# Altium footprint library CHXXX.pcblib: 142 footprints (part 2 of 9)
Each footprint in its own frame and in the unit in brackets; x right, y up, seen from the top. Pads: shape width x height; smd on the part's side, far side on the other; paste and mask are expansions set on the pad; w line width, h text height; cw(c..) or ccw(c..) is an arc to the next point about the centre after c.
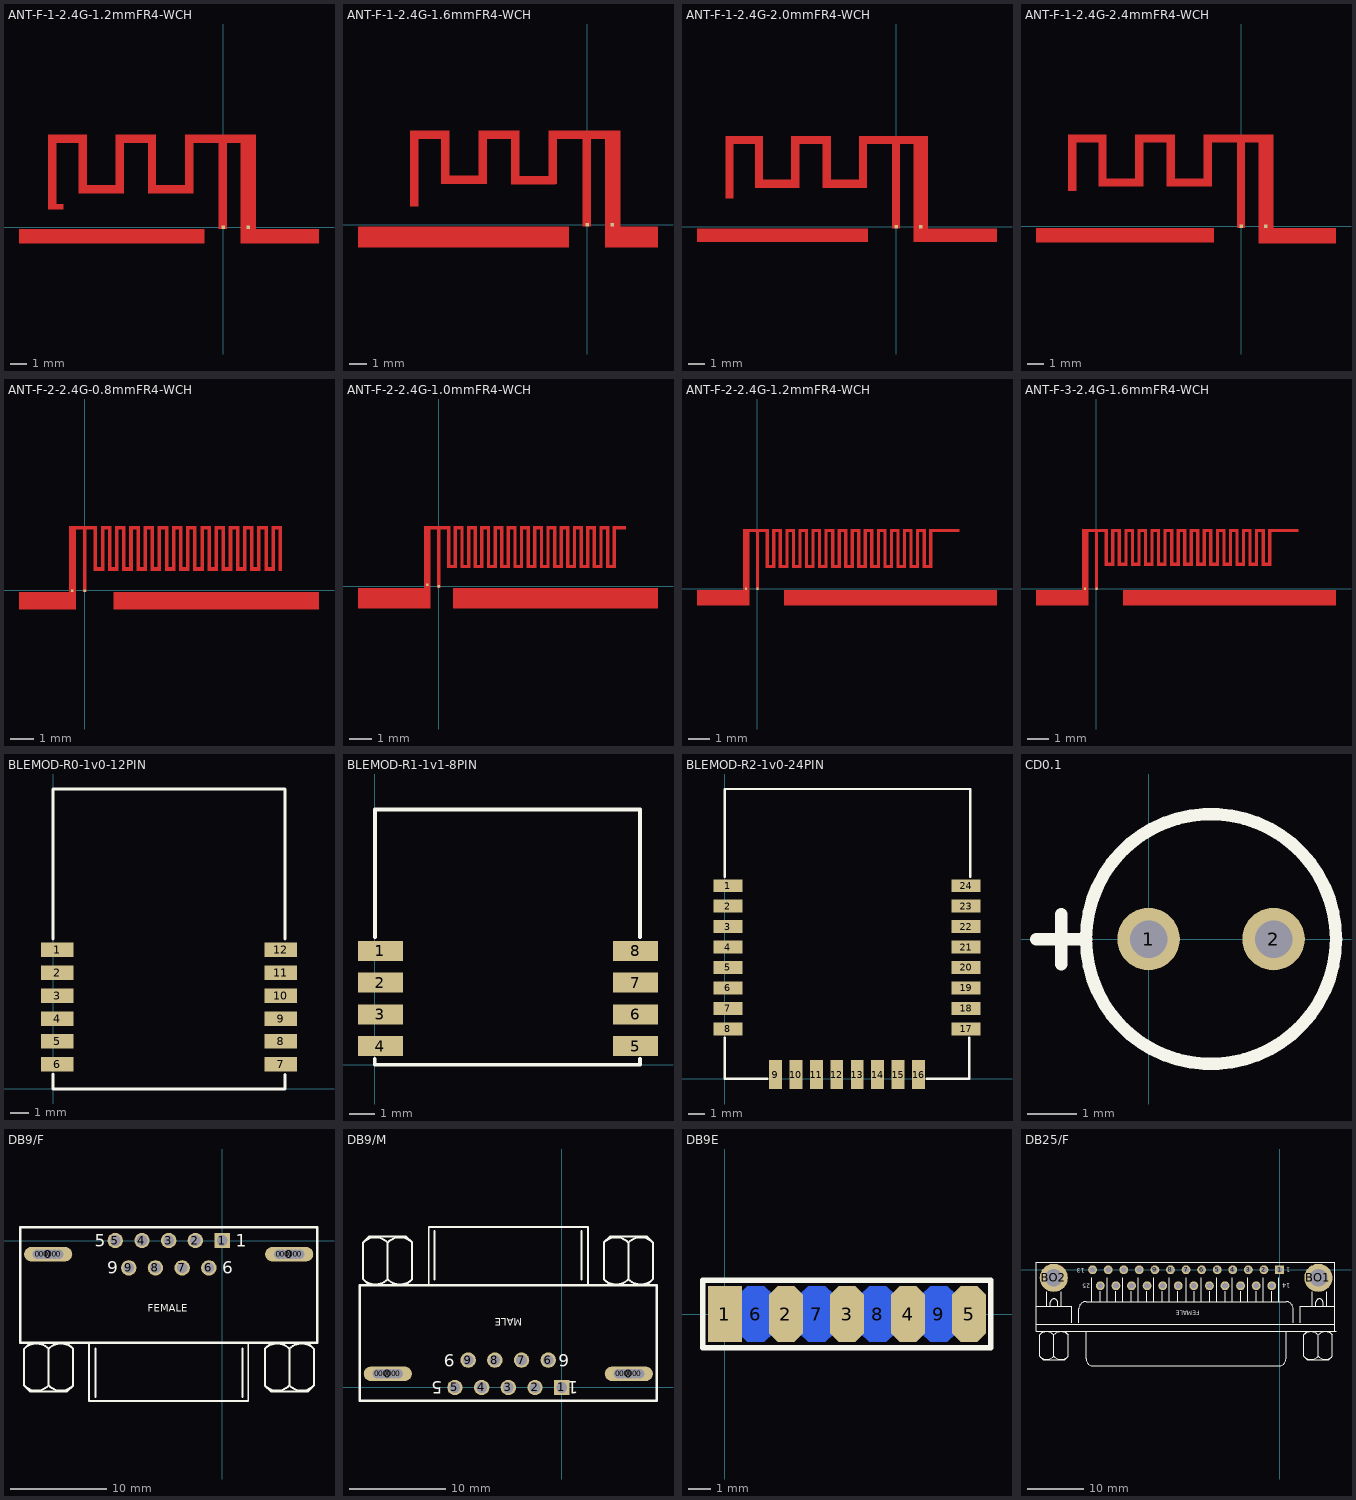
[diagram p1: the footprints below, top view; thin cyan lines are the x and y axes]

## ANT-F-1-2.4G-1.2mmFR4-WCH [mm]
pads (2):
  rect 0.2x0.2 smd mask+0: 0(1.483,0) 1(0,0)
TopLayer:
  region: -9.86,5.18 -10.36,5.18 -10.36,1.06 -9.86,1.06
  region: -8.06,5.5 -10.36,5.5 -10.36,5 -8.06,5
  region: -8.06,5.18 -8.56,5.18 -8.56,2 -8.06,2
  region: -5.875,2.5 -8.364,2.5 -8.364,2 -5.875,2
  region: -5.86,5.18 -6.36,5.18 -6.36,2 -5.86,2
  region: -3.96,5.5 -6.36,5.5 -6.36,5 -3.96,5
  region: -3.96,5.18 -4.46,5.18 -4.46,2 -3.96,2
  region: -1.85,2.5 -4.39,2.5 -4.39,2 -1.85,2
  region: -1.76,5.18 -2.26,5.18 -2.26,2 -1.76,2
  region: 1.94,5.5 -2.26,5.5 -2.26,5 1.94,5
  region: 1.94,5.205 1.04,5.205 1.04,-0.1 1.94,-0.1
  region: 0.24,5.231 -0.26,5.231 -0.26,-0.1 0.24,-0.1
  region: -9.46,1.36 -10.36,1.36 -10.36,1.06 -9.46,1.06
  rectangle: -12.086,-0.978 -1.093,-0.1
  rectangle: 1.04,-0.978 5.679,-0.1
Mechanical13:
  text "适用FR4板材，1.2mm板厚，封装未开窗，建议天线开窗。技术咨询 tech@wch.cn" at -10.498,-4.902 h0.4
  text "GND" at -9.371,-1.808 h0.89
  text "GND" at 0.936,-1.808 h0.89

## ANT-F-1-2.4G-1.6mmFR4-WCH [mm]
pads (2):
  rect 0.2x0.2 smd mask+0: 0(1.483,0) 1(0,0)
TopLayer:
  region: 0.24,5.231 -0.26,5.231 -0.26,-0.1 0.24,-0.1
  region: 1.94,5.206 1.04,5.206 1.04,-0.1 1.94,-0.1
  region: 1.94,5.5 -2.26,5.5 -2.26,5 1.94,5
  region: -1.76,5.181 -2.26,5.181 -2.26,2.361 -1.76,2.361
  region: -1.85,2.855 -4.39,2.855 -4.39,2.36 -1.85,2.36
  region: -3.96,5.18 -4.46,5.18 -4.46,2.36 -3.96,2.36
  region: -3.96,5.5 -6.36,5.5 -6.36,5 -3.96,5
  region: -5.86,5.181 -6.36,5.181 -6.36,2.361 -5.86,2.361
  region: -5.875,2.861 -8.364,2.861 -8.364,2.361 -5.875,2.361
  region: -8.06,5.181 -8.56,5.181 -8.56,2.361 -8.06,2.361
  region: -8.06,5.5 -10.36,5.5 -10.36,5 -8.06,5
  region: -9.86,5.18 -10.36,5.18 -10.36,1.06 -9.86,1.06
  rectangle: 1.04,-1.335 4.149,-0.1
  rectangle: -13.408,-1.335 -1.064,-0.1
Mechanical13:
  text "GND" at -9.082,-1.74 h0.89
  text "GND" at 1.225,-1.74 h0.89
  text "适用FR4板材，1.6mm板厚，封装未开窗，建议天线开窗。技术咨询 tech@wch.cn" at -10.511,-5.125 h0.4

## ANT-F-1-2.4G-2.0mmFR4-WCH [mm]
pads (2):
  rect 0.2x0.2 smd mask+0: 0(1.483,0) 1(0,0)
TopLayer:
  rectangle: 1.04,-0.928 6.113,-0.1
  rectangle: -12.073,-0.928 -1.72,-0.1
  region: 0.24,5.231 -0.26,5.231 -0.26,-0.1 0.24,-0.1
  region: 1.94,5.206 1.04,5.206 1.04,-0.1 1.94,-0.1
  region: 1.94,5.5 -2.26,5.5 -2.26,5 1.94,5
  region: -1.76,5.181 -2.26,5.181 -2.26,2.361 -1.76,2.361
  region: -1.85,2.855 -4.39,2.855 -4.39,2.36 -1.85,2.36
  region: -3.96,5.18 -4.46,5.18 -4.46,2.36 -3.96,2.36
  region: -3.96,5.5 -6.36,5.5 -6.36,5 -3.96,5
  region: -5.86,5.181 -6.36,5.181 -6.36,2.361 -5.86,2.361
  region: -5.875,2.861 -8.364,2.861 -8.364,2.361 -5.875,2.361
  region: -8.06,5.181 -8.56,5.181 -8.56,2.361 -8.06,2.361
  region: -8.06,5.5 -10.36,5.5 -10.36,5 -8.06,5
  region: -9.86,5.18 -10.36,5.18 -10.36,1.7 -9.86,1.7
Mechanical13:
  text "适用FR4板材，2.0mm板厚，封装未开窗，建议天线开窗。技术咨询 tech@wch.cn" at -10.433,-4.732 h0.4
  text "GND" at 1.5,-1.841 h0.89
  text "GND" at -8.807,-1.841 h0.89

## ANT-F-1-2.4G-2.4mmFR4-WCH [mm]
pads (2):
  rect 0.2x0.2 smd mask+0: 0(1.483,0) 1(0,0)
TopLayer:
  rectangle: 1.04,-1.05 5.683,-0.1
  rectangle: -12.291,-0.983 -1.62,-0.1
  region: 0.24,5.231 -0.26,5.231 -0.26,-0.1 0.24,-0.1
  region: 1.94,5.206 1.04,5.206 1.04,-0.1 1.94,-0.1
  region: 1.94,5.5 -2.26,5.5 -2.26,5 1.94,5
  region: -1.76,5.181 -2.26,5.181 -2.26,2.361 -1.76,2.361
  region: -1.85,2.855 -4.39,2.855 -4.39,2.36 -1.85,2.36
  region: -3.96,5.18 -4.46,5.18 -4.46,2.36 -3.96,2.36
  region: -3.96,5.5 -6.36,5.5 -6.36,5 -3.96,5
  region: -5.86,5.181 -6.36,5.181 -6.36,2.361 -5.86,2.361
  region: -5.875,2.861 -8.364,2.861 -8.364,2.361 -5.875,2.361
  region: -8.06,5.181 -8.56,5.181 -8.56,2.361 -8.06,2.361
  region: -8.06,5.5 -10.36,5.5 -10.36,5 -8.06,5
  region: -9.86,5.18 -10.36,5.18 -10.36,2.1 -9.86,2.1
Mechanical13:
  text "适用FR4板材，2.4mm板厚，封装未开窗，建议天线开窗。技术咨询 tech@wch.cn" at -10.269,-5.379 h0.4
  text "GND" at -8.263,-1.666 h0.89
  text "GND" at 2.044,-1.666 h0.89

## ANT-F-2-2.4G-0.8mmFR4-WCH [mm]
pads (2):
  rect 0.1x0.1 smd mask+0: 0(-0.525,-0.025) 1(0,-0.025)
TopLayer:
  rectangle: 7.875,0.825 8.025,2.725
  rectangle: 7.575,0.825 8.025,0.975
  rectangle: 6.675,0.825 6.825,2.725
  rectangle: 6.975,0.825 7.125,2.725
  rectangle: 7.275,0.825 7.425,2.725
  rectangle: 7.575,0.825 7.725,2.725
  rectangle: 6.675,2.575 7.125,2.725
  rectangle: 7.275,2.575 7.725,2.725
  rectangle: 6.375,0.825 6.825,0.975
  rectangle: 6.975,0.825 7.425,0.975
  rectangle: 5.475,0.825 5.625,2.725
  rectangle: 5.775,0.825 5.925,2.725
  rectangle: 6.075,0.825 6.225,2.725
  rectangle: 6.375,0.825 6.525,2.725
  rectangle: 5.475,2.575 5.925,2.725
  rectangle: 6.075,2.575 6.525,2.725
  rectangle: 5.175,0.825 5.625,0.975
  rectangle: 5.775,0.825 6.225,0.975
  rectangle: 4.275,0.825 4.425,2.725
  rectangle: 4.575,0.825 4.725,2.725
  rectangle: 4.875,0.825 5.025,2.725
  rectangle: 5.175,0.825 5.325,2.725
  rectangle: 4.275,2.575 4.725,2.725
  rectangle: 4.875,2.575 5.325,2.725
  rectangle: 3.975,0.825 4.425,0.975
  rectangle: 4.575,0.825 5.025,0.975
  rectangle: 3.075,0.825 3.225,2.725
  rectangle: 3.375,0.825 3.525,2.725
  rectangle: 3.675,0.825 3.825,2.725
  rectangle: 3.975,0.825 4.125,2.725
  rectangle: 3.075,2.575 3.525,2.725
  rectangle: 3.675,2.575 4.125,2.725
  rectangle: 2.775,0.825 3.225,0.975
  rectangle: 3.375,0.825 3.825,0.975
  rectangle: 1.875,0.825 2.025,2.725
  rectangle: 2.175,0.825 2.325,2.725
  rectangle: 2.475,0.825 2.625,2.725
  rectangle: 2.775,0.825 2.925,2.725
  rectangle: 1.875,2.575 2.325,2.725
  rectangle: 2.475,2.575 2.925,2.725
  rectangle: 1.575,0.825 2.025,0.975
  rectangle: 2.175,0.825 2.625,0.975
  rectangle: 0.975,0.825 1.425,0.975
  rectangle: 0.375,0.825 0.825,0.975
  rectangle: 1.275,2.575 1.725,2.725
  rectangle: 0.675,2.575 1.125,2.725
  rectangle: -0.075,2.575 0.525,2.725
  rectangle: 1.575,0.825 1.725,2.725
  rectangle: 1.275,0.825 1.425,2.725
  rectangle: 0.975,0.825 1.125,2.725
  rectangle: 0.675,0.825 0.825,2.725
  rectangle: 0.375,0.825 0.525,2.725
  region: 0.075,2.575 0.075,2.725 -0.675,2.725 -0.675,2.575
  rectangle: -0.075,-0.075 0.075,2.725
  rectangle: -0.675,-0.075 -0.375,2.725
  rectangle: 8.175,0.825 8.325,2.725
  rectangle: 7.875,2.575 8.325,2.725
  rectangle: 1.215,-0.802 9.885,-0.075
  rectangle: -2.777,-0.802 -0.375,-0.075
Mechanical13:
  text "GND" at -2.691,-1.393 h0.89
  text "GND" at 3.964,-1.393 h0.89
  text "适用FR4板材，0.8mm板厚，封装未开窗，建议天线开窗。技术咨询 tech@wch.cn" at -3.002,-4.172 h0.4

## ANT-F-2-2.4G-1.0mmFR4-WCH [mm]
pads (2):
  rect 0.1x0.1 smd mask+0: 0(-0.525,0.075) 1(0,0)
TopLayer:
  rectangle: 0.633,-1.001 9.934,-0.075
  rectangle: -3.664,-1.001 -0.375,-0.075
  rectangle: 7.875,2.575 8.475,2.725
  rectangle: 7.875,0.825 8.025,2.725
  rectangle: 7.575,0.825 8.025,0.975
  rectangle: 6.675,0.825 6.825,2.725
  rectangle: 6.975,0.825 7.125,2.725
  rectangle: 7.275,0.825 7.425,2.725
  rectangle: 7.575,0.825 7.725,2.725
  rectangle: 6.675,2.575 7.125,2.725
  rectangle: 7.275,2.575 7.725,2.725
  rectangle: 6.375,0.825 6.825,0.975
  rectangle: 6.975,0.825 7.425,0.975
  rectangle: 5.475,0.825 5.625,2.725
  rectangle: 5.775,0.825 5.925,2.725
  rectangle: 6.075,0.825 6.225,2.725
  rectangle: 6.375,0.825 6.525,2.725
  rectangle: 5.475,2.575 5.925,2.725
  rectangle: 6.075,2.575 6.525,2.725
  rectangle: 5.175,0.825 5.625,0.975
  rectangle: 5.775,0.825 6.225,0.975
  rectangle: 4.275,0.825 4.425,2.725
  rectangle: 4.575,0.825 4.725,2.725
  rectangle: 4.875,0.825 5.025,2.725
  rectangle: 5.175,0.825 5.325,2.725
  rectangle: 4.275,2.575 4.725,2.725
  rectangle: 4.875,2.575 5.325,2.725
  rectangle: 3.975,0.825 4.425,0.975
  rectangle: 4.575,0.825 5.025,0.975
  rectangle: 3.075,0.825 3.225,2.725
  rectangle: 3.375,0.825 3.525,2.725
  rectangle: 3.675,0.825 3.825,2.725
  rectangle: 3.975,0.825 4.125,2.725
  rectangle: 3.075,2.575 3.525,2.725
  rectangle: 3.675,2.575 4.125,2.725
  rectangle: 2.775,0.825 3.225,0.975
  rectangle: 3.375,0.825 3.825,0.975
  rectangle: 1.875,0.825 2.025,2.725
  rectangle: 2.175,0.825 2.325,2.725
  rectangle: 2.475,0.825 2.625,2.725
  rectangle: 2.775,0.825 2.925,2.725
  rectangle: 1.875,2.575 2.325,2.725
  rectangle: 2.475,2.575 2.925,2.725
  rectangle: 1.575,0.825 2.025,0.975
  rectangle: 2.175,0.825 2.625,0.975
  rectangle: 0.975,0.825 1.425,0.975
  rectangle: 0.375,0.825 0.825,0.975
  rectangle: 1.275,2.575 1.725,2.725
  rectangle: 0.675,2.575 1.125,2.725
  rectangle: 0.075,2.575 0.525,2.725
  rectangle: 1.575,0.825 1.725,2.725
  rectangle: 1.275,0.825 1.425,2.725
  rectangle: 0.975,0.825 1.125,2.725
  rectangle: 0.675,0.825 0.825,2.725
  rectangle: 0.375,0.825 0.525,2.725
  region: 0.075,2.575 0.075,2.725 -0.675,2.725 -0.675,2.575
  rectangle: -0.075,-0.075 0.075,2.725
  rectangle: -0.675,-0.075 -0.375,2.725
Mechanical13:
  text "适用FR4板材，1.0mm板厚，封装未开窗，建议天线开窗。技术咨询 tech@wch.cn" at -3.825,-2.709 h0.4
  text "GND" at -3.874,-1.213 h0.89
  text "GND" at 6.433,-1.213 h0.89

## ANT-F-2-2.4G-1.2mmFR4-WCH [mm]
pads (2):
  rect 0.1x0.1 smd mask+0: 0(-0.525,0) 1(0,0)
TopLayer:
  rectangle: -0.675,-0.05 -0.375,2.75
  rectangle: -0.075,-0.05 0.075,2.75
  region: 0.075,2.6 0.075,2.75 -0.675,2.75 -0.675,2.6
  rectangle: 0.375,0.95 0.525,2.75
  rectangle: 0.675,0.95 0.825,2.75
  rectangle: 0.975,0.95 1.125,2.75
  rectangle: 1.275,0.95 1.425,2.75
  rectangle: 1.575,0.95 1.725,2.75
  rectangle: 0.075,2.6 0.525,2.75
  rectangle: 0.675,2.6 1.125,2.75
  rectangle: 1.275,2.6 1.725,2.75
  rectangle: 0.375,0.95 0.825,1.1
  rectangle: 0.975,0.95 1.425,1.1
  rectangle: 2.175,0.95 2.625,1.1
  rectangle: 1.575,0.95 2.025,1.1
  rectangle: 2.475,2.6 2.925,2.75
  rectangle: 1.875,2.6 2.325,2.75
  rectangle: 2.775,0.95 2.925,2.75
  rectangle: 2.475,0.95 2.625,2.75
  rectangle: 2.175,0.95 2.325,2.75
  rectangle: 1.875,0.95 2.025,2.75
  rectangle: 3.375,0.95 3.825,1.1
  rectangle: 2.775,0.95 3.225,1.1
  rectangle: 3.675,2.6 4.125,2.75
  rectangle: 3.075,2.6 3.525,2.75
  rectangle: 3.975,0.95 4.125,2.75
  rectangle: 3.675,0.95 3.825,2.75
  rectangle: 3.375,0.95 3.525,2.75
  rectangle: 3.075,0.95 3.225,2.75
  rectangle: 4.575,0.95 5.025,1.1
  rectangle: 3.975,0.95 4.425,1.1
  rectangle: 4.875,2.6 5.325,2.75
  rectangle: 4.275,2.6 4.725,2.75
  rectangle: 5.175,0.95 5.325,2.75
  rectangle: 4.875,0.95 5.025,2.75
  rectangle: 4.575,0.95 4.725,2.75
  rectangle: 4.275,0.95 4.425,2.75
  rectangle: 5.775,0.95 6.225,1.1
  rectangle: 5.175,0.95 5.625,1.1
  rectangle: 6.075,2.6 6.525,2.75
  rectangle: 5.475,2.6 5.925,2.75
  rectangle: 6.375,0.95 6.525,2.75
  rectangle: 6.075,0.95 6.225,2.75
  rectangle: 5.775,0.95 5.925,2.75
  rectangle: 5.475,0.95 5.625,2.75
  rectangle: 6.975,0.95 7.425,1.1
  rectangle: 6.375,0.95 6.825,1.1
  rectangle: 7.275,2.6 7.725,2.75
  rectangle: 6.675,2.6 7.125,2.75
  rectangle: 7.575,0.95 7.725,2.75
  rectangle: 7.275,0.95 7.425,2.75
  rectangle: 6.975,0.95 7.125,2.75
  rectangle: 6.675,0.95 6.825,2.75
  rectangle: 7.575,0.95 8.025,1.1
  rectangle: 7.875,2.6 9.275,2.75
  rectangle: 7.875,0.95 8.025,2.75
  rectangle: 1.215,-0.777 10.994,-0.05
  rectangle: -2.777,-0.777 -0.375,-0.05
Mechanical13:
  text "适用FR4板材，1.2mm板厚，封装未开窗，建议天线开窗。技术咨询 tech@wch.cn" at -2.709,-3.856 h0.4
  text "GND" at -3.295,-1.368 h0.89
  text "GND" at 3.964,-1.368 h0.89

## ANT-F-3-2.4G-1.6mmFR4-WCH [mm]
pads (2):
  rect 0.1x0.1 smd mask+0: 0(-0.525,0) 1(0,0)
TopLayer:
  rectangle: 1.215,-0.777 10.994,-0.05
  rectangle: -2.777,-0.777 -0.375,-0.05
  rectangle: -0.675,-0.05 -0.375,2.75
  rectangle: -0.075,-0.05 0.075,2.75
  region: 0.075,2.6 0.075,2.75 -0.675,2.75 -0.675,2.6
  rectangle: 0.375,1.05 0.525,2.75
  rectangle: 0.675,1.05 0.825,2.75
  rectangle: 0.975,1.05 1.125,2.75
  rectangle: 1.275,1.05 1.425,2.75
  rectangle: 1.575,1.05 1.725,2.75
  rectangle: 0.075,2.6 0.525,2.75
  rectangle: 0.675,2.6 1.125,2.75
  rectangle: 1.275,2.6 1.725,2.75
  rectangle: 0.375,1.05 0.825,1.2
  rectangle: 0.975,1.05 1.425,1.2
  rectangle: 2.175,1.05 2.625,1.2
  rectangle: 1.575,1.05 2.025,1.2
  rectangle: 2.475,2.6 2.925,2.75
  rectangle: 1.875,2.6 2.325,2.75
  rectangle: 2.775,1.05 2.925,2.75
  rectangle: 2.475,1.05 2.625,2.75
  rectangle: 2.175,1.05 2.325,2.75
  rectangle: 1.875,1.05 2.025,2.75
  rectangle: 3.375,1.05 3.825,1.2
  rectangle: 2.775,1.05 3.225,1.2
  rectangle: 3.675,2.6 4.125,2.75
  rectangle: 3.075,2.6 3.525,2.75
  rectangle: 3.975,1.05 4.125,2.75
  rectangle: 3.675,1.05 3.825,2.75
  rectangle: 3.375,1.05 3.525,2.75
  rectangle: 3.075,1.05 3.225,2.75
  rectangle: 4.575,1.05 5.025,1.2
  rectangle: 3.975,1.05 4.425,1.2
  rectangle: 4.875,2.6 5.325,2.75
  rectangle: 4.275,2.6 4.725,2.75
  rectangle: 5.175,1.05 5.325,2.75
  rectangle: 4.875,1.05 5.025,2.75
  rectangle: 4.575,1.05 4.725,2.75
  rectangle: 4.275,1.05 4.425,2.75
  rectangle: 5.775,1.05 6.225,1.2
  rectangle: 5.175,1.05 5.625,1.2
  rectangle: 6.075,2.6 6.525,2.75
  rectangle: 5.475,2.6 5.925,2.75
  rectangle: 6.375,1.05 6.525,2.75
  rectangle: 6.075,1.05 6.225,2.75
  rectangle: 5.775,1.05 5.925,2.75
  rectangle: 5.475,1.05 5.625,2.75
  rectangle: 6.975,1.05 7.425,1.2
  rectangle: 6.375,1.05 6.825,1.2
  rectangle: 7.275,2.6 7.725,2.75
  rectangle: 6.675,2.6 7.125,2.75
  rectangle: 7.575,1.05 7.725,2.75
  rectangle: 7.275,1.05 7.425,2.75
  rectangle: 6.975,1.05 7.125,2.75
  rectangle: 6.675,1.05 6.825,2.75
  rectangle: 7.575,1.05 8.025,1.2
  rectangle: 7.875,2.6 9.275,2.75
  rectangle: 7.875,1.05 8.025,2.75
Mechanical13:
  text "GND" at 3.964,-1.368 h0.89
  text "GND" at -2.792,-1.368 h0.89
  text "适用FR4板材，1.6mm板厚，封装未开窗，建议天线开窗。技术咨询 tech@wch.cn" at -2.758,-4.352 h0.4

## BLEMOD-R0-1v0-12PIN [mm]
pads (12):
  rect 1.8x0.8 smd: 1(0.225,7.711) 2(0.225,6.441) 3(0.225,5.171) 4(0.225,3.901) 5(0.225,2.631) 6(0.225,1.361) 7(12.611,1.361) 8(12.611,2.631) 9(12.611,3.901) 10(12.611,5.171) 11(12.611,6.441) 12(12.611,7.711)
TopOverlay:
  lines w0.152: 0,0.822 0,0 12.835,0 12.835,0.796 ; 0,8.303 0,16.606 12.835,16.606 12.835,8.303

## BLEMOD-R1-1v1-8PIN [mm]
pads (8):
  rect 1.8x0.8 smd: 1(0.225,4.553) 2(0.225,3.283) 3(0.225,2.013) 4(0.225,0.743) 5(10.425,0.743) 6(10.425,2.013) 7(10.425,3.283) 8(10.425,4.553)
TopOverlay:
  lines w0.152: -0.008,0.233 -0.008,0 0,0 10.6,0 10.6,0.233 ; 0,5.108 0,10.215 10.6,10.215 10.6,5.108

## BLEMOD-R2-1v0-24PIN [mm]
pads (24):
  rect 1.8x0.8 smd: 1(0.192,12.005) 2(0.192,10.735) 3(0.192,9.465) 4(0.192,8.195) 5(0.192,6.925) 6(0.192,5.655) 7(0.192,4.385) 8(0.192,3.115) 17(14.981,3.115) 18(14.981,4.385) 19(14.981,5.655) 20(14.981,6.925) 21(14.981,8.195) 22(14.981,9.465) 23(14.981,10.735) 24(14.981,12.005)
  rect 0.8x1.8 smd: 9(3.142,0.275) 10(4.412,0.275) 11(5.682,0.275) 12(6.952,0.275) 13(8.222,0.275) 14(9.492,0.275) 15(10.762,0.275) 16(12.032,0.275)
TopOverlay:
  lines w0.152: 0,2.558 0,0 2.643,0 ; 0,12.559 0,18.015 15.256,18.015 15.256,12.564 ; 12.53,0 15.173,0 15.173,2.558

## CD0.1 [mil]
pads (2):
  round 50 hole 30: 1(0,0) 2(100,0)
TopOverlay:
  circle w10: c50,0 r100
  lines w10: -90,0 -50,0 ; -70,-20 -70,20

## DB9/F [mm]
pads (23):
  round 1 hole 1: 0(-19.14,-1.42) 0(-18.7,-1.42) 0(-18.26,-1.42) 0(-17.82,-1.42) 0(-17.38,-1.42) 0(-16.94,-1.42) 0(5.86,-1.42) 0(6.3,-1.42) 0(6.74,-1.42) 0(7.18,-1.42) 0(7.62,-1.42) 0(8.06,-1.42)
  oval 5x1.5 hole 1: 0(-18.04,-1.42) 0(6.96,-1.42)
  rect 1.6x1.6 hole 1.1: 1(0,0)
  round 1.6 hole 1.1: 2(-2.77,0) 3(-5.54,0) 4(-8.31,0) 5(-11.08,0) 6(-1.374,-2.84) 7(-4.143,-2.84) 8(-6.912,-2.84) 9(-9.68,-2.84)
TopOverlay:
  lines w0.203: -20.537,-15.037 ccw(c-19.264,-13.765) -17.992,-15.037 ; -20.537,-11.223 cw(c-19.264,-12.495) -17.992,-11.223 ; -19.899,-10.59 -20.534,-11.225 -20.534,-15.035 -19.899,-15.67 -16.089,-15.67 -15.454,-15.035 -15.454,-11.225 -16.089,-10.59 ; -17.997,-15.037 ccw(c-16.724,-13.765) -15.452,-15.037 ; -17.997,-11.223 cw(c-16.724,-12.495) -15.452,-11.223 ; -17.994,-15.035 -17.994,-11.225 ; -13.795,-10.595 -13.795,-16.62 2.715,-16.62 2.715,-10.595 ; -13.126,-16.254 -13.126,-11.174 ; 2.114,-16.254 2.114,-11.174 ; 4.44,-15.037 ccw(c5.712,-13.765) 6.984,-15.037 ; 4.44,-11.223 cw(c5.712,-12.495) 6.984,-11.223 ; 5.077,-10.59 4.442,-11.225 4.442,-15.035 5.077,-15.67 8.887,-15.67 9.522,-15.035 9.522,-11.225 8.887,-10.59 ; 6.98,-15.037 ccw(c8.252,-13.765) 9.524,-15.037 ; 6.98,-11.223 cw(c8.252,-12.495) 9.524,-11.223 ; 6.982,-15.035 6.982,-11.225
  lines w0.254: -20.94,-10.62 -20.94,1.38 9.86,1.38 9.86,-10.62 -20.94,-10.62
  text "FEMALE" at -7.728,-7.391 h0.76
  text "9" at -11.935,-3.438 h1.27
  text "1" at 1.4,-0.644 h1.27
  text "5" at -13.205,-0.644 h1.27
  text "6" at 0.003,-3.438 h1.27

## DB9/M [mm]
pads (23):
  round 1 hole 1: 0(-19.14,1.42) 0(-18.7,1.42) 0(-18.26,1.42) 0(-17.82,1.42) 0(-17.38,1.42) 0(-16.94,1.42) 0(5.86,1.42) 0(6.3,1.42) 0(6.74,1.42) 0(7.18,1.42) 0(7.62,1.42) 0(8.06,1.42)
  oval 5x1.5 hole 1: 0(-18.04,1.42) 0(6.96,1.42)
  rect 1.6x1.6 hole 1.1: 1(0,0)
  round 1.6 hole 1.1: 2(-2.77,0) 3(-5.54,0) 4(-8.31,0) 5(-11.08,0) 6(-1.4,2.84) 7(-4.168,2.84) 8(-6.937,2.84) 9(-9.706,2.84)
TopOverlay:
  lines w0.203: -20.604,11.223 ccw(c-19.332,12.495) -18.06,11.223 ; -20.604,15.037 cw(c-19.332,13.765) -18.06,15.037 ; -19.967,10.59 -20.602,11.225 -20.602,15.035 -19.967,15.67 -16.157,15.67 -15.522,15.035 -15.522,11.225 -16.157,10.59 ; -18.064,11.223 ccw(c-16.792,12.495) -15.52,11.223 ; -18.064,15.037 cw(c-16.792,13.765) -15.52,15.037 ; -18.062,11.225 -18.062,15.035 ; -13.795,10.595 -13.795,16.62 2.715,16.62 2.715,10.595 ; -13.194,11.174 -13.194,16.254 ; 2.046,11.174 2.046,16.254 ; 4.372,11.223 ccw(c5.644,12.495) 6.917,11.223 ; 4.372,15.037 cw(c5.644,13.765) 6.917,15.037 ; 5.009,10.59 4.374,11.225 4.374,15.035 5.009,15.67 8.819,15.67 9.454,15.035 9.454,11.225 8.819,10.59 ; 6.912,11.223 ccw(c8.184,12.495) 9.457,11.223 ; 6.912,15.037 cw(c8.184,13.765) 9.457,15.037 ; 6.914,11.225 6.914,15.035
  lines w0.254: -20.94,-1.38 -20.94,10.62 9.86,10.62 9.86,-1.38 -20.94,-1.38
  text "9" at -11.103,3.423 h1.27
  text "1" at 1.697,0.623 h1.27
  text "5" at -12.403,0.623 h1.27
  text "6" at 0.797,3.423 h1.27
  text "MALE" at -4.078,7.205 h0.76

## DB9E [mil]
pads (9):
  rect 60x100 smd: 1(0,0)
  oct 60x100 smd: 2(109,0) 3(218,0) 4(327,0) 5(436,0)
  oct 60x100 smd far side: 6(55,0) 7(164,0) 8(273,0) 9(382,0)
TopOverlay:
  lines w10: -40,-60 -40,60 475,60 475,-60 -40,-60

## DB25/F [mm]
pads (27):
  rect 1.575x1.575 hole 1.016: 1(0,0)
  round 1.575 hole 1.016: 2(-2.77,0) 3(-5.54,0) 4(-8.31,0) 5(-11.08,0) 6(-13.85,0) 7(-16.62,0) 8(-19.39,0) 9(-22.16,0) 10(-24.93,0) 11(-27.7,0) 12(-30.47,0) 13(-33.24,0) 14(-1.385,-2.84) 15(-4.155,-2.84) 16(-6.925,-2.84) 17(-9.695,-2.84) 18(-12.465,-2.84) 19(-15.235,-2.84) 20(-18.005,-2.84) 21(-20.775,-2.84) 22(-23.545,-2.84) 23(-26.315,-2.84) 24(-29.085,-2.84) 25(-31.855,-2.84)
  round 4.995 hole 3.18: BO1(6.9,-1.42) BO2(-40.14,-1.42)
TopOverlay:
  lines w0.203: -43.297,-6.436 -36.947,-6.436 -36.947,-9.455 ; -43.297,1.364 -43.297,-10.936 10.043,-10.936 ; -43.262,-9.636 9.838,-9.636 ; -43.262,1.364 9.838,1.364 9.838,-10.936 ; -42.665,-15.384 ccw(c-41.392,-14.111) -40.12,-15.384 ; -42.665,-11.569 cw(c-41.392,-12.841) -40.12,-11.569 ; -42.027,-10.936 -42.662,-11.571 -42.662,-15.381 -42.027,-16.016 -38.217,-16.016 -37.582,-15.381 -37.582,-11.571 -38.217,-10.936 ; -41.37,-6.436 -41.37,-3.896 ; -40.735,-6.436 -40.735,-5.801 cw(c-40.1,-5.801) -39.465,-5.801 -39.465,-6.436 ; -40.125,-15.384 ccw(c-38.852,-14.111) -37.58,-15.384 ; -40.125,-11.569 cw(c-38.852,-12.841) -37.58,-11.569 ; -40.122,-15.381 -40.122,-11.571 ; -38.83,-6.436 -38.83,-3.896 ; -35.677,-9.455 -35.677,-6.915 cw(c-34.407,-6.915) -34.407,-5.645 1.153,-5.645 cw(c1.153,-6.915) 2.423,-6.915 2.423,-9.455 ; -34.407,-10.936 -34.407,-15.805 ccw(c-33.137,-15.805) -33.137,-17.075 -32.502,-17.075 -0.117,-17.075 ccw(c-0.117,-15.805) 1.153,-15.805 1.153,-10.936 ; -33.349,-5.645 -33.349,-1.418 ; -31.867,-5.645 -31.867,-3.836 ; -30.597,-5.645 -30.597,-1.418 ; -29.116,-5.645 -29.116,-3.836 ; -27.846,-5.645 -27.846,-1.418 ; -26.364,-5.645 -26.364,-3.836 ; -25.094,-5.645 -25.094,-1.418 ; -23.612,-5.645 -23.612,-3.836 ; -22.342,-5.645 -22.342,-1.418 ; -20.861,-5.645 -20.861,-3.836 ; -19.591,-5.645 -19.591,-1.418 ; -18.109,-5.645 -18.109,-3.836 ; -16.627,-5.645 -16.627,-1.418 ; -15.146,-5.645 -15.146,-3.836 ; -13.876,-5.645 -13.876,-1.418 ; -12.394,-5.645 -12.394,-3.836 ; -11.124,-5.645 -11.124,-1.418 ; -9.642,-5.645 -9.642,-3.836 ; -8.372,-5.645 -8.372,-1.418 ; -6.891,-5.645 -6.891,-3.836 ; -5.621,-5.645 -5.621,-1.418 ; -4.139,-5.645 -4.139,-3.836 ; -2.869,-5.645 -2.869,-1.418 ; -1.387,-5.645 -1.387,-3.836 ; -0.117,-5.645 -0.117,-1.418 ; 3.693,-9.455 3.693,-6.436 9.838,-6.436 ; 4.325,-15.384 ccw(c5.598,-14.111) 6.87,-15.384 ; 4.325,-11.569 cw(c5.598,-12.841) 6.87,-11.569 ; 4.963,-10.936 4.328,-11.571 4.328,-15.381 4.963,-16.016 8.773,-16.016 9.408,-15.381 9.408,-11.571 8.773,-10.936 ; 5.83,-6.436 5.83,-3.896 ; 6.465,-6.436 6.465,-5.801 cw(c7.1,-5.801) 7.735,-5.801 7.735,-6.436 ; 6.865,-15.384 ccw(c8.138,-14.111) 9.41,-15.384 ; 6.865,-11.569 cw(c8.138,-12.841) 9.41,-11.569 ; 6.868,-15.381 6.868,-11.571 ; 8.37,-6.436 8.37,-3.896
  text "25" at -33.665,-2.445 h0.76
  text "13" at -34.59,0.283 h0.76
  text "1" at 1.865,0.395 h0.76
  text "14" at 1.87,-2.382 h0.76
  text "FEMALE" at -14.19,-7.256 h0.76